# Altium schematic symbol library Schlib1.SchLib: 15 symbols
Pins are listed as number, name and electrical type; pins without a type are passive.

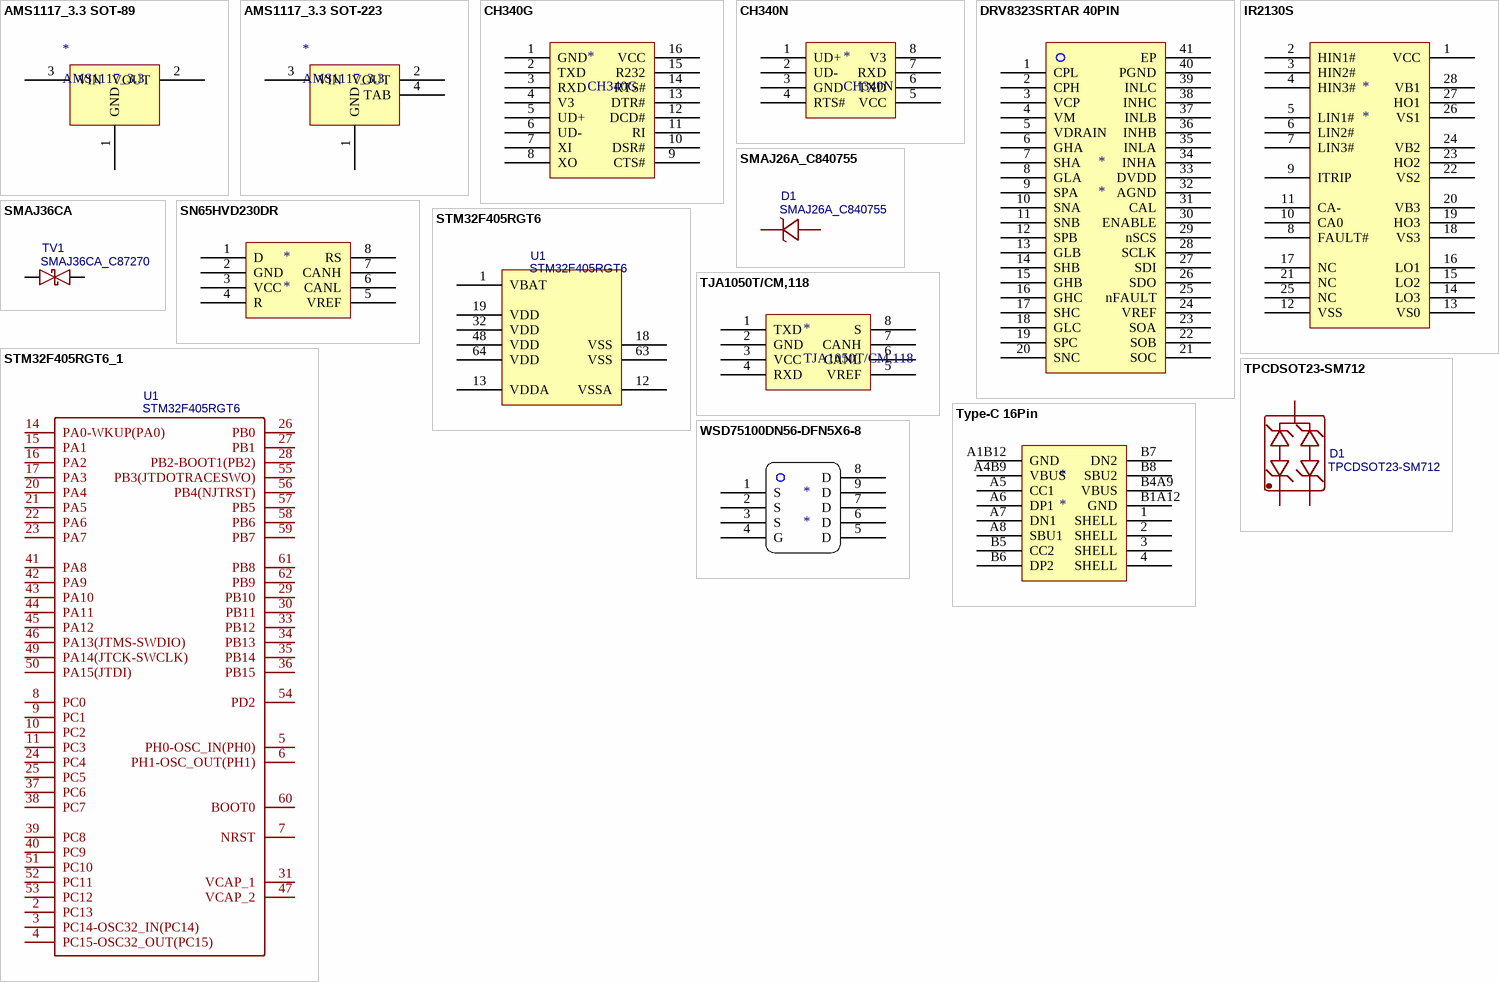
[diagram p0: symbols AMS1117_3.3 SOT-89 to WSD75100DN56-DFN5X6-8]

## AMS1117_3.3 SOT-89
designator *, comment AMS1117_3.3
pins: 1 GND, 2 VOUT, 3 VIN

## AMS1117_3.3 SOT-223
designator *, comment AMS1117_3.3
pins: 1 GND, 2 VOUT, 3 VIN, 4 TAB

## CH340G
designator *
pins: 1 GND, 2 TXD, 3 RXD, 4 V3, 5 UD+, 6 UD-, 7 XI, 8 XO, 9 CTS#, 10 DSR#, 11 RI, 12 DCD#, 13 DTR#, 14 RTS#, 15 R232, 16 VCC

## CH340N
designator *
pins: 1 UD+, 2 UD-, 3 GND, 4 RTS#, 5 VCC, 6 TXD, 7 RXD, 8 V3

## DRV8323SRTAR 40PIN
designator *
footprint DRV8323SRTAR WQFN-40_L6.0-W6.0-P0.50-TL-EP4.5
pins: 1 CPL, 2 CPH, 3 VCP, 4 VM, 5 VDRAIN, 6 GHA, 7 SHA, 8 GLA, 9 SPA, 10 SNA, 11 SNB, 12 SPB, 13 GLB, 14 SHB, 15 GHB, 16 GHC, 17 SHC, 18 GLC, 19 SPC, 20 SNC, 21 SOC, 22 SOB, 23 SOA, 24 VREF, 25 nFAULT, 26 SDO, 27 SDI, 28 SCLK, 29 nSCS, 30 ENABLE, 31 CAL, 32 AGND, 33 DVDD, 34 INHA, 35 INLA, 36 INHB, 37 INLB, 38 INHC, 39 INLC, 40 PGND, 41 EP

## IR2130S
designator *
pins: 1 VCC, 2 HIN1#, 3 HIN2#, 4 HIN3#, 5 LIN1#, 6 LIN2#, 7 LIN3#, 8 FAULT#, 9 ITRIP, 10 CA0, 11 CA-, 12 VSS, 13 VS0, 14 LO3, 15 LO2, 16 LO1, 17 NC, 18 VS3, 19 HO3, 20 VB3, 21 NC, 22 VS2, 23 HO2, 24 VB2, 25 NC, 26 VS1, 27 HO1, 28 VB1

## SMAJ26A_C840755
designator D1
BOM_Manufacturer: MDD（Microdiode Electronics）; Contributor: LCSC; BOM_Supplier: LCSC; BOM_Supplier Part: C840755; BOM_Manufacturer Part: SMAJ26A; BOM_JLCPCB Part Class: Extended Part; spicePre: D; spiceSymbolName: SMAJ26A_C840755
footprint SMA_L4.3-W2.6-LS5.1-RD
pins: 1 C, 2 A

## SMAJ36CA
designator TV1, comment SMAJ36CA_C87270
BOM_Manufacturer: Brightking; BOM_Supplier: LCSC; BOM_Manufacturer Part: SMAJ36CA; BOM_Supplier Part: C87270; BOM_JLCPCB Part Class: Extended Part; spicePre: T; spiceSymbolName: SMAJ36CA_C87270
footprint SMA_L4.4-W2.6-LS5.0-BI
pins: 1 K, 2 A

## SN65HVD230DR
designator *
pins: 1 D, 2 GND, 3 VCC, 4 R, 5 VREF, 6 CANL, 7 CANH, 8 RS

## STM32F405RGT6
designator U1
BOM_Manufacturer: ST; subpart_no: 2; tags: STM32; BOM_Supplier Part: C15742; BOM_Supplier: LCSC; BOM_Manufacturer Part: STM32F405RGT6; image: http://image.lceda.cn/szlcsc/C15742.jpg; BOM_JLCPCB Part Class: Extended Part; spicePre: U; spiceSymbolName: STM32F405RGT6
footprint LQFP-64_L10.0-W10.0-P0.50-LS12.0-BL
pins: 1 VBAT, 12 VSSA, 13 VDDA, 18 VSS, 19 VDD, 32 VDD, 48 VDD, 63 VSS, 64 VDD

## STM32F405RGT6_1
designator U1, comment STM32F405RGT6
BOM_Manufacturer: ST; subpart_no: 2; tags: STM32; BOM_Supplier Part: C15742; BOM_Supplier: LCSC; BOM_Manufacturer Part: STM32F405RGT6; image: http://image.lceda.cn/szlcsc/C15742.jpg; BOM_JLCPCB Part Class: Extended Part; spicePre: U; spiceSymbolName: STM32F405RGT6
footprint LQFP-64_L10.0-W10.0-P0.50-LS12.0-BL
pins: 2 PC13, 3 PC14-OSC32_IN(PC14), 4 PC15-OSC32_OUT(PC15), 5 PH0-OSC_IN(PH0), 6 PH1-OSC_OUT(PH1), 7 NRST, 8 PC0, 9 PC1, 10 PC2, 11 PC3, 14 PA0-WKUP(PA0), 15 PA1, 16 PA2, 17 PA3, 20 PA4, 21 PA5, 22 PA6, 23 PA7, 24 PC4, 25 PC5, 26 PB0, 27 PB1, 28 PB2-BOOT1(PB2), 29 PB10, 30 PB11, 31 VCAP_1, 33 PB12, 34 PB13, 35 PB14, 36 PB15, 37 PC6, 38 PC7, 39 PC8, 40 PC9, 41 PA8, 42 PA9, 43 PA10, 44 PA11, 45 PA12, 46 PA13(JTMS-SWDIO), 47 VCAP_2, 49 PA14(JTCK-SWCLK), 50 PA15(JTDI), 51 PC10, 52 PC11, 53 PC12, 54 PD2, 55 PB3(JTDOTRACESWO), 56 PB4(NJTRST), 57 PB5, 58 PB6, 59 PB7, 60 BOOT0, 61 PB8, 62 PB9

## TJA1050T/CM,118
designator *
pins: 1 TXD, 2 GND, 3 VCC, 4 RXD, 5 VREF, 6 CANL, 7 CANH, 8 S

## TPCDSOT23-SM712
designator D1
BOM_Manufacturer: TECH PUBLIC; Contributor: LCSC; BOM_Supplier: LCSC; BOM_Supplier Part: C558433; BOM_Manufacturer Part: TPCDSOT23-SM712; BOM_JLCPCB Part Class: Extended Part; spicePre: D; spiceSymbolName: TPCDSOT23-SM712
footprint SOT23-3_L2.9-W1.6-P1.90-LS2.8-BR
pins: 1, 2, 3

## Type-C 16Pin
designator *
pins: 1 SHELL, 2 SHELL, 3 SHELL, 4 SHELL, A1B12 GND, A4B9 VBUS, A5 CC1, A6 DP1, A7 DN1, A8 SBU1, B1A12 GND, B4A9 VBUS, B5 CC2, B6 DP2, B7 DN2, B8 SBU2

## WSD75100DN56-DFN5X6-8
designator *
pins: 1 S, 2 S, 3 S, 4 G, 5 D, 6 D, 7 D, 8 D, 9 D